# Altium footprint library USBULC6-2F3.PcbLib: 3 footprints
Each footprint in its own frame and in the unit in brackets; x right, y up, seen from the top. Pads: shape width x height; smd on the part's side, far side on the other; paste and mask are expansions set on the pad; w line width, h text height; cw(c..) or ccw(c..) is an arc to the next point about the centre after c.
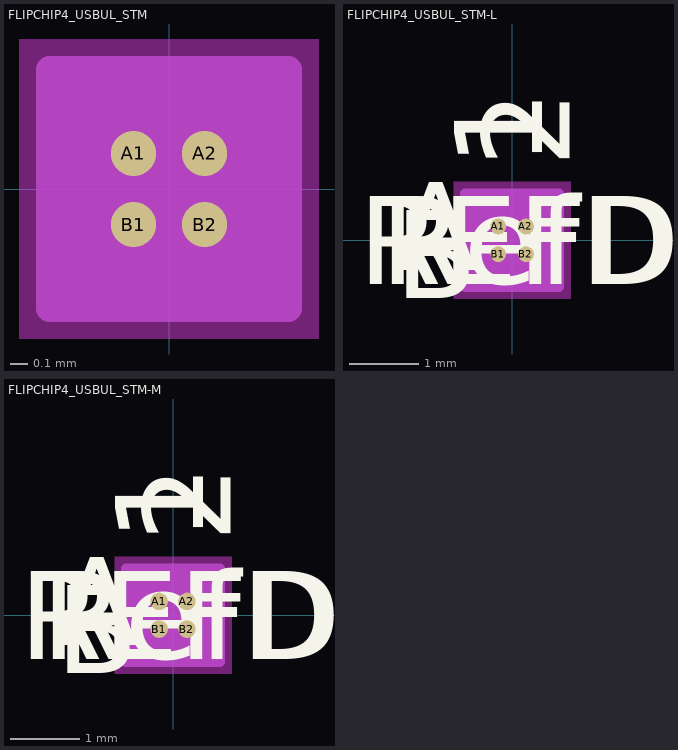
[diagram p0: the footprints below, top view; thin cyan lines are the x and y axes]

## FLIPCHIP4_USBUL_STM [mil]
pads (4):
  round 10 smd paste+0 mask+0: A1(-7.87,7.88) A2(7.87,7.88) B1(-7.87,-7.88) B2(7.87,-7.88)
Keep-Out Layer:
  region: -33.25,-33.25 -33.25,33.25 33.25,33.25 33.25,-33.25
Mechanical 13:
  lines w1: -16.5,8.62 -8.63,16.5 ; -16.5,-16.5 16.5,-16.5 16.5,16.5 -16.5,16.5 -16.5,-16.5
Mechanical 15:
  region: 26.5,-26.5 -26.5,-26.5 -26.5,26.5 26.5,26.5
  lines w6: -26.5,-26.5 -26.5,26.5 26.5,26.5 26.5,-26.5 -26.5,-26.5
3D body "FLIPCHIP4_USBUL_STM.step": height 26.1, standoff -0.02, extent -16.5,-16.5 16.5,16.5

## FLIPCHIP4_USBUL_STM-L [mil]
pads (4):
  round 9 smd paste+0 mask+0: A1(-7.87,7.88) A2(7.87,7.88) B1(-7.87,-7.88) B2(7.87,-7.88)
Top Overlay:
  text "A" at -66.5,-17.12 h50
  text "B" at -66.5,-32.88 h50
  text "1" at 17.13,41.5 h50
  text "2" at 32.87,41.5 h50
  text "RefDes" at -75,-25 h50
  text "REFDES" at -87.5,-25 h50
Bottom Overlay:
  text "A" at -41.5,-17.12 h50
  text "B" at -41.5,-32.88 h50
  text "1" at -32.87,41.5 h50
  text "2" at -17.13,41.5 h50
Keep-Out Layer:
  region: -33.25,-33.25 -33.25,33.25 33.25,33.25 33.25,-33.25
Mechanical 13:
  lines w1: -16.5,8.62 -8.63,16.5 ; -16.5,-16.5 16.5,-16.5 16.5,16.5 -16.5,16.5 -16.5,-16.5
  text "A" at -66.5,-17.12 h50
  text "B" at -66.5,-32.88 h50
  text "1" at 17.13,41.5 h50
  text "2" at 32.87,41.5 h50
  text "RefDes2" at -87.5,-25 h50
Mechanical 15:
  region: 26.5,-26.5 -26.5,-26.5 -26.5,26.5 26.5,26.5
  lines w6: -26.5,-26.5 -26.5,26.5 26.5,26.5 26.5,-26.5 -26.5,-26.5
3D body "FLIPCHIP4_USBUL_STM.step": height 26.1, standoff -0.02, extent -16.5,-16.5 16.5,16.5

## FLIPCHIP4_USBUL_STM-M [mil]
pads (4):
  round 10 smd paste+0 mask+0: A1(-7.87,7.88) A2(7.87,7.88) B1(-7.87,-7.88) B2(7.87,-7.88)
Top Overlay:
  text "REFDES" at -87.5,-25 h50
  text "RefDes" at -75,-25 h50
  text "2" at 32.87,41.5 h50
  text "1" at 17.13,41.5 h50
  text "B" at -66.5,-32.88 h50
  text "A" at -66.5,-17.12 h50
Bottom Overlay:
  text "2" at -17.13,41.5 h50
  text "1" at -32.87,41.5 h50
  text "B" at -41.5,-32.88 h50
  text "A" at -41.5,-17.12 h50
Keep-Out Layer:
  region: -33.25,-33.25 -33.25,33.25 33.25,33.25 33.25,-33.25
Mechanical 13:
  lines w1: -16.5,8.62 -8.63,16.5 ; -16.5,-16.5 -16.5,16.5 16.5,16.5 16.5,-16.5 -16.5,-16.5
  text "RefDes2" at -87.5,-25 h50
  text "2" at 32.87,41.5 h50
  text "1" at 17.13,41.5 h50
  text "B" at -66.5,-32.88 h50
  text "A" at -66.5,-17.12 h50
Mechanical 15:
  region: 26.5,-26.5 -26.5,-26.5 -26.5,26.5 26.5,26.5
  lines w6: -26.5,-26.5 26.5,-26.5 26.5,26.5 -26.5,26.5 -26.5,-26.5
3D body "FLIPCHIP4_USBUL_STM.step": height 26.1, standoff -0.02, extent -16.5,-16.5 16.5,16.5